# Altium schematic symbol library CM5IO.SchLib: 14 symbols
Pins are listed as number, name and electrical type; pins without a type are passive.

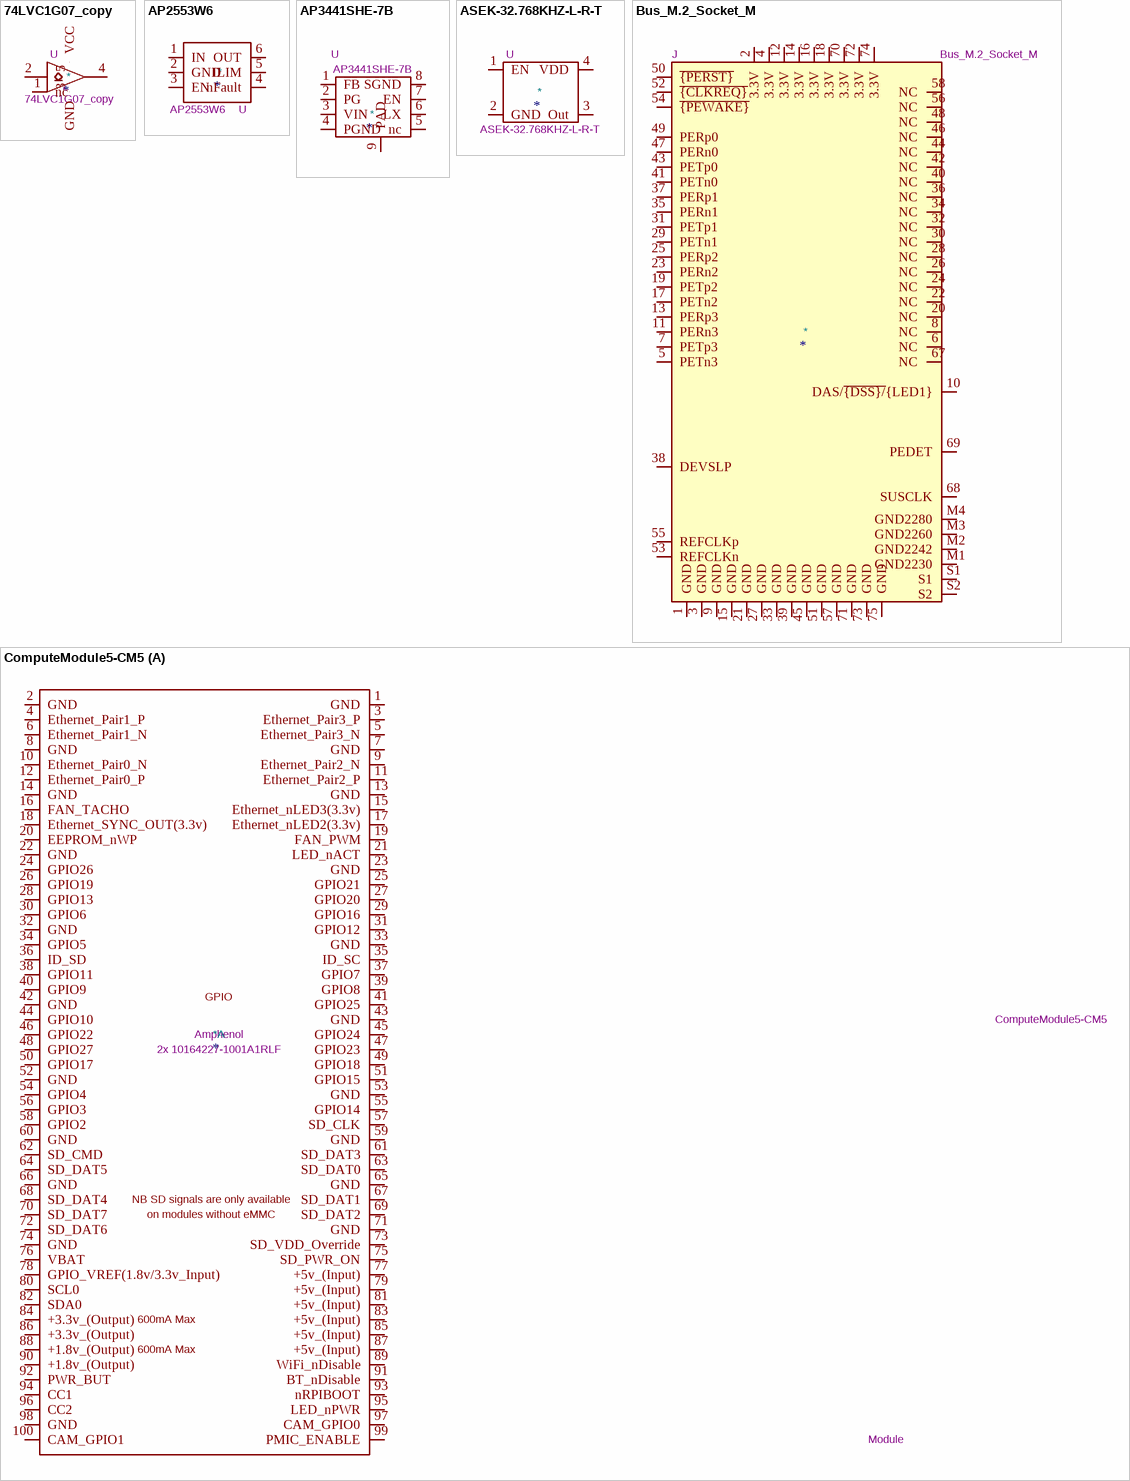
[diagram p0: symbols 74LVC1G07_copy to ComputeModule5-CM5]

## 74LVC1G07_copy
designator *  value 74LVC1G07_copy  Reference: U
Single Buffer Gate w/ Open Drain, Low-Voltage CMOS; ki_keywords: Single Gate Buff LVC CMOS Open Drain; ki_fp_filters: SOT* SG-*; Footprint: Package_TO_SOT_SMD:SOT-353_SC-70-5; Datasheet: http://www.ti.com/lit/sg/scyt129e/scyt129e.pdf; Description_: Single Buffer Gate w/ Open Drain, Low-Voltage CMOS
pins: 1 nc, 2, 3 GND, 4, 5 VCC

## AP2553W6
designator *  value AP2553W6  Reference: U
Field4: Digikey; Field5: AP2553W6-7DICT-ND; Footprint: Package_TO_SOT_SMD:SOT-23-6; Datasheet: https://www.diodes.com/assets/Datasheets/AP255x.pdf
pins: 1 IN, 2 GND, 3 EN, 4 nFault, 5 ILIM, 6 OUT

## AP3441SHE-7B
designator *  value AP3441SHE-7B  Reference: U
Footprint: Package_DFN_QFN:DFN-8-1EP_2x2mm_P0.5mm_EP1.05x1.75mm; Datasheet: https://www.diodes.com/assets/Datasheets/AP3441-L.pdf
pins: 1 FB, 2 PG, 3 VIN, 4 PGND, 5 nc, 6 LX, 7 EN, 8 SGND, 9 PAD

## ASEK-32.768KHZ-L-R-T
designator *  value ASEK-32.768KHZ-L-R-T  Reference: U
Footprint: Crystal:Crystal_SMD_3225-4Pin_3.2x2.5mm; Datasheet: https://abracon.com/Oscillators/ASEK.pdf
pins: 1 EN, 2 GND, 3 Out, 4 VDD

## Bus_M.2_Socket_M
designator *  value Bus_M.2_Socket_M  Reference: J
M.2 Socket 3 Mechanical Key M; ki_keywords: M2 NGNF PCI-E; ki_fp_filters: *M*2*M*; Description_: M.2 Socket 3 Mechanical Key M
pins: 1 GND, 2 3.3V, 3 GND, 4 3.3V, 5 PETn3, 6 NC, 7 PETp3, 8 NC, 9 GND, 10 DAS/~{{DSS}/}{LED1}, 11 PERn3, 12 3.3V, 13 PERp3, 14 3.3V, 15 GND, 16 3.3V, 17 PETn2, 18 3.3V, 19 PETp2, 20 NC, 21 GND, 22 NC, 23 PERn2, 24 NC, 25 PERp2, 26 NC, 27 GND, 28 NC, 29 PETn1, 30 NC, 31 PETp1, 32 NC, 33 GND, 34 NC, 35 PERn1, 36 NC, 37 PERp1, 38 DEVSLP, 39 GND, 40 NC, 41 PETn0, 42 NC, 43 PETp0, 44 NC, 45 GND, 46 NC, 47 PERn0, 48 NC, 49 PERp0, 50 ~{{PERST}}, 51 GND, 52 ~{{CLKREQ}}, 53 REFCLKn, 54 ~{{PEWAKE}}, 55 REFCLKp, 56 NC, 57 GND, 58 NC, 67 NC, 68 SUSCLK, 69 PEDET, 70 3.3V, 71 GND, 72 3.3V, 73 GND, 74 3.3V, 75 GND, M1 GND2230, M2 GND2242, M3 GND2260, M4 GND2280, S1, S2

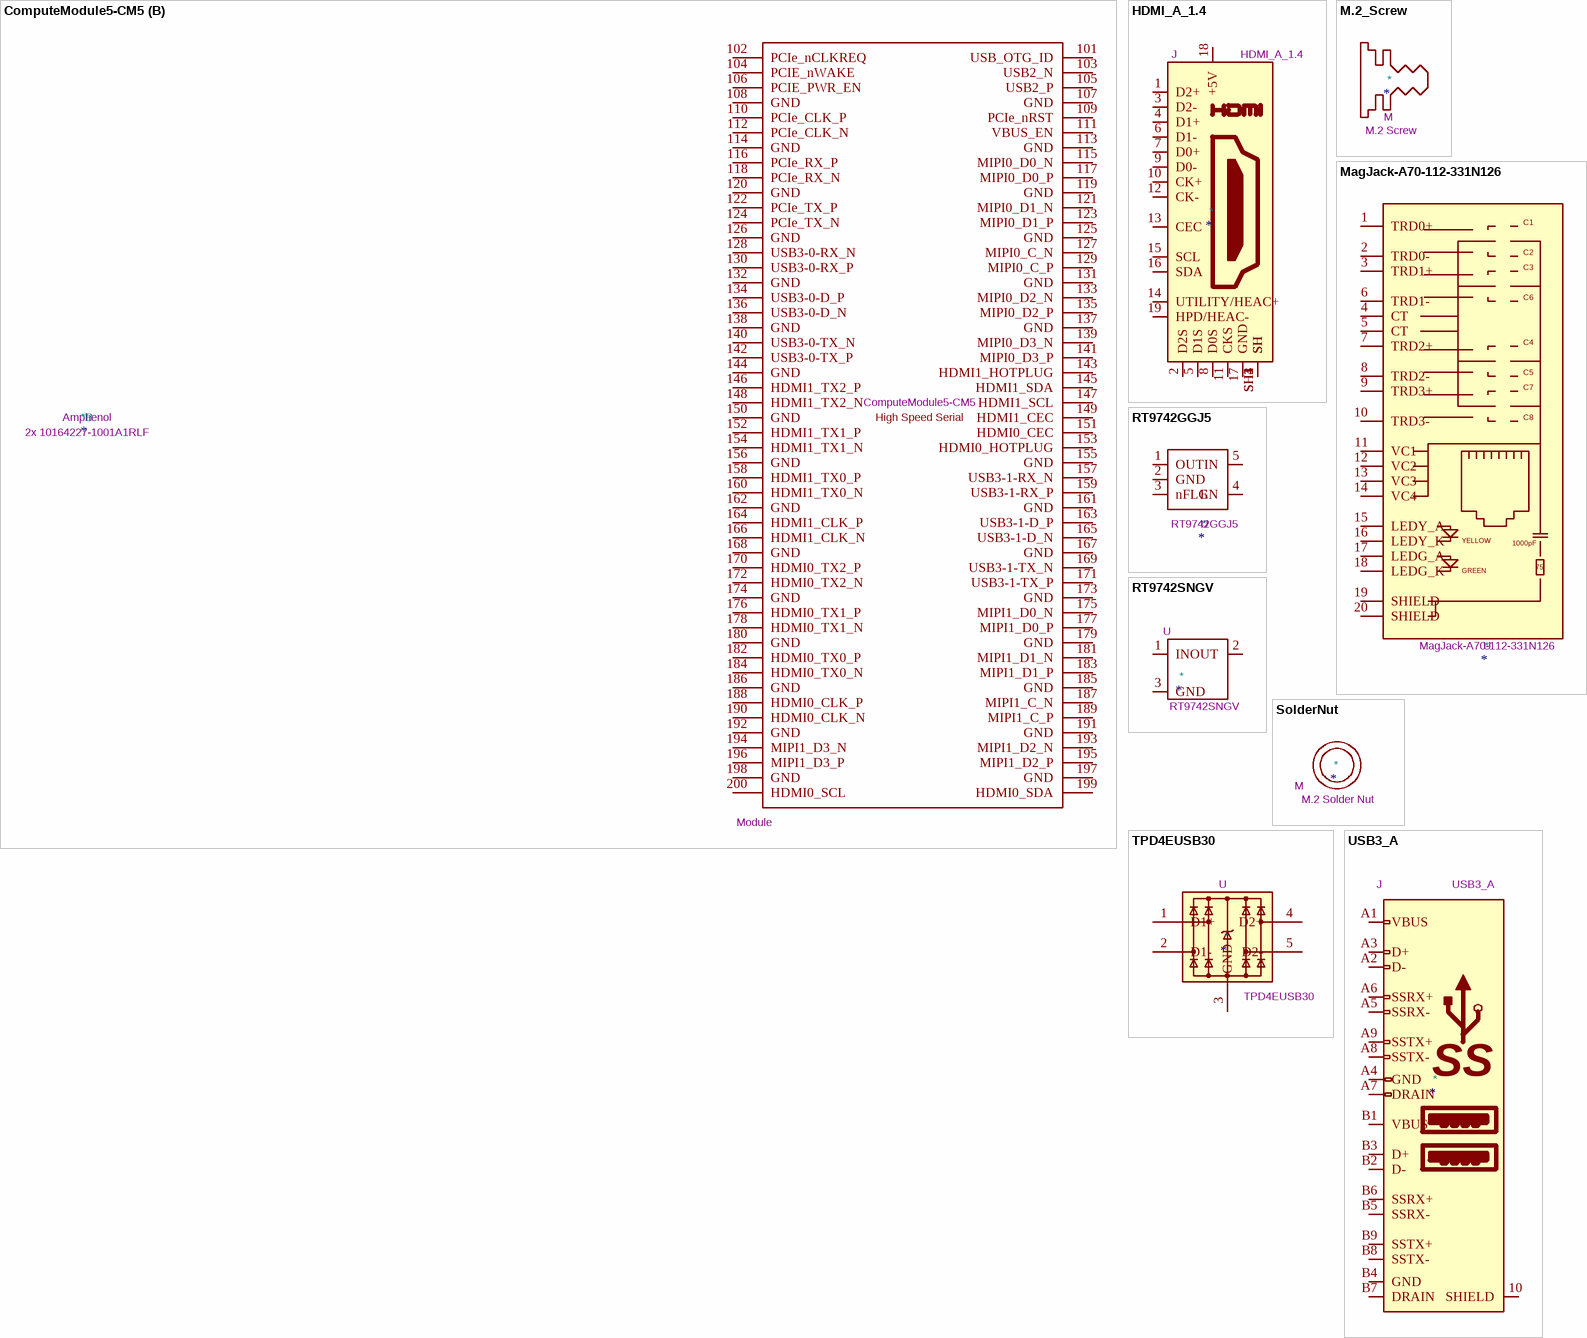
[diagram p1: symbols ComputeModule5-CM5 to USB3_A]

## ComputeModule5-CM5
designator *  value ComputeModule5-CM5  Reference: Module  Field4: Amphenol  Field5: 2x 10164227-1001A1RLF
RaspberryPi Compute module 5; Footprint: CM5IO:Raspberry-Pi-5-Compute-Module; Description_: RaspberryPi Compute module 5
part A pins: 1 GND, 2 GND, 3 Ethernet_Pair3_P, 4 Ethernet_Pair1_P, 5 Ethernet_Pair3_N, 6 Ethernet_Pair1_N, 7 GND, 8 GND, 9 Ethernet_Pair2_N, 10 Ethernet_Pair0_N, 11 Ethernet_Pair2_P, 12 Ethernet_Pair0_P, 13 GND, 14 GND, 15 Ethernet_nLED3(3.3v), 16 FAN_TACHO, 17 Ethernet_nLED2(3.3v), 18 Ethernet_SYNC_OUT(3.3v), 19 FAN_PWM, 20 EEPROM_nWP, 21 LED_nACT, 22 GND, 23 GND, 24 GPIO26, 25 GPIO21, 26 GPIO19, 27 GPIO20, 28 GPIO13, 29 GPIO16, 30 GPIO6, 31 GPIO12, 32 GND, 33 GND, 34 GPIO5, 35 ID_SC, 36 ID_SD, 37 GPIO7, 38 GPIO11, 39 GPIO8, 40 GPIO9, 41 GPIO25, 42 GND, 43 GND, 44 GPIO10, 45 GPIO24, 46 GPIO22, 47 GPIO23, 48 GPIO27, 49 GPIO18, 50 GPIO17, 51 GPIO15, 52 GND, 53 GND, 54 GPIO4, 55 GPIO14, 56 GPIO3, 57 SD_CLK, 58 GPIO2, 59 GND, 60 GND, 61 SD_DAT3, 62 SD_CMD, 63 SD_DAT0, 64 SD_DAT5, 65 GND, 66 GND, 67 SD_DAT1, 68 SD_DAT4, 69 SD_DAT2, 70 SD_DAT7, 71 GND, 72 SD_DAT6, 73 SD_VDD_Override, 74 GND, 75 SD_PWR_ON, 76 VBAT, 77 +5v_(Input), 78 GPIO_VREF(1.8v/3.3v_Input), 79 +5v_(Input), 80 SCL0, 81 +5v_(Input), 82 SDA0, 83 +5v_(Input), 84 +3.3v_(Output), 85 +5v_(Input), 86 +3.3v_(Output), 87 +5v_(Input), 88 +1.8v_(Output), 89 WiFi_nDisable, 90 +1.8v_(Output), 91 BT_nDisable, 92 PWR_BUT, 93 nRPIBOOT, 94 CC1, 95 LED_nPWR, 96 CC2, 97 CAM_GPIO0, 98 GND, 99 PMIC_ENABLE, 100 CAM_GPIO1
part B pins: 101 USB_OTG_ID, 102 PCIe_nCLKREQ, 103 USB2_N, 104 PCIE_nWAKE, 105 USB2_P, 106 PCIE_PWR_EN, 107 GND, 108 GND, 109 PCIe_nRST, 110 PCIe_CLK_P, 111 VBUS_EN, 112 PCIe_CLK_N, 113 GND, 114 GND, 115 MIPI0_D0_N, 116 PCIe_RX_P, 117 MIPI0_D0_P, 118 PCIe_RX_N, 119 GND, 120 GND, 121 MIPI0_D1_N, 122 PCIe_TX_P, 123 MIPI0_D1_P, 124 PCIe_TX_N, 125 GND, 126 GND, 127 MIPI0_C_N, 128 USB3-0-RX_N, 129 MIPI0_C_P, 130 USB3-0-RX_P, 131 GND, 132 GND, 133 MIPI0_D2_N, 134 USB3-0-D_P, 135 MIPI0_D2_P, 136 USB3-0-D_N, 137 GND, 138 GND, 139 MIPI0_D3_N, 140 USB3-0-TX_N, 141 MIPI0_D3_P, 142 USB3-0-TX_P, 143 HDMI1_HOTPLUG, 144 GND, 145 HDMI1_SDA, 146 HDMI1_TX2_P, 147 HDMI1_SCL, 148 HDMI1_TX2_N, 149 HDMI1_CEC, 150 GND, 151 HDMI0_CEC, 152 HDMI1_TX1_P, 153 HDMI0_HOTPLUG, 154 HDMI1_TX1_N, 155 GND, 156 GND, 157 USB3-1-RX_N, 158 HDMI1_TX0_P, 159 USB3-1-RX_P, 160 HDMI1_TX0_N, 161 GND, 162 GND, 163 USB3-1-D_P, 164 HDMI1_CLK_P, 165 USB3-1-D_N, 166 HDMI1_CLK_N, 167 GND, 168 GND, 169 USB3-1-TX_N, 170 HDMI0_TX2_P, 171 USB3-1-TX_P, 172 HDMI0_TX2_N, 173 GND, 174 GND, 175 MIPI1_D0_N, 176 HDMI0_TX1_P, 177 MIPI1_D0_P, 178 HDMI0_TX1_N, 179 GND, 180 GND, 181 MIPI1_D1_N, 182 HDMI0_TX0_P, 183 MIPI1_D1_P, 184 HDMI0_TX0_N, 185 GND, 186 GND, 187 MIPI1_C_N, 188 HDMI0_CLK_P, 189 MIPI1_C_P, 190 HDMI0_CLK_N, 191 GND, 192 GND, 193 MIPI1_D2_N, 194 MIPI1_D3_N, 195 MIPI1_D2_P, 196 MIPI1_D3_P, 197 GND, 198 GND, 199 HDMI0_SDA, 200 HDMI0_SCL
part A text: GPIO; NB SD signals are only available; on modules without eMMC; 600mA Max
part B text: High Speed Serial

## HDMI_A_1.4
designator *  value HDMI_A_1.4  Reference: J
HDMI 1.4+ type A connector; ki_keywords: hdmi conn; ki_fp_filters: HDMI*A*; Datasheet: https://en.wikipedia.org/wiki/HDMI; Description_: HDMI 1.4+ type A connector
pins: 1 D2+, 2 D2S, 3 D2-, 4 D1+, 5 D1S, 6 D1-, 7 D0+, 8 D0S, 9 D0-, 10 CK+, 11 CKS, 12 CK-, 13 CEC, 14 UTILITY/HEAC+, 15 SCL, 16 SDA, 17 GND, 18 +5V, 19 HPD/HEAC-, SH1 SH, SH2 SH, SH3 SH, SH4 SH

## M.2_Screw
designator *  value M.2 Screw  Reference: M

## MagJack-A70-112-331N126
designator *  value MagJack-A70-112-331N126  Reference: U
pins: 1 TRD0+, 2 TRD0-, 3 TRD1+, 4 CT, 5 CT, 6 TRD1-, 7 TRD2+, 8 TRD2-, 9 TRD3+, 10 TRD3-, 11 VC1, 12 VC2, 13 VC3, 14 VC4, 15 LEDY_A, 16 LEDY_K, 17 LEDG_A, 18 LEDG_K, 19 SHIELD, 20 SHIELD
text: C1; C2; C3; C6; C4; C5; C7; C8; YELLOW; 1000pF; GREEN; 75

## RT9742GGJ5
designator *  value RT9742GGJ5  Reference: U
1A load switch; Footprint: Package_TO_SOT_SMD:SOT-23-5; Datasheet: https://www.richtek.com/assets/product_file/RT9742/DS9742-00.pdf; Description_: 1A load switch
pins: 1 OUT, 2 GND, 3 nFLG, 4 EN, 5 IN

## RT9742SNGV
designator *  value RT9742SNGV  Reference: U
500mA Load Switch; Footprint: Package_TO_SOT_SMD:TSOT-23_HandSoldering; Datasheet: https://www.richtek.com/assets/product_file/RT9742/DS9742-10.pdf; Description_: 500mA Load Switch
pins: 1 IN, 2 OUT, 3 GND

## SolderNut
designator *  value M.2 Solder Nut  Reference: M

## TPD4EUSB30
designator *  value TPD4EUSB30  Reference: U
4-Channel ESD Protection for Super-Speed USB 3.0 Interface, USON-10; ki_keywords: ESD protection USB 3.0; ki_fp_filters: USON*2.5x1.0mm*P0.5mm*; Footprint: Package_SON:USON-10_2.5x1.0mm_P0.5mm; Datasheet: http://www.ti.com/lit/ds/symlink/tpd2eusb30a.pdf; Description_: 4-Channel ESD Protection for Super-Speed USB 3.0 Interface, USON-10
pins: 1 D1+, 2 D1-, 3 GND, 4 D2+, 5 D2-, 6 hidden, 7 hidden, 8 GND hidden, 9 hidden, 10 hidden

## USB3_A
designator *  value USB3_A  Reference: J
USB 3.0 A connector; ki_keywords: usb universal serial bus; Datasheet: ~; Description_: USB 3.0 A connector
pins: 10 SHIELD, A1 VBUS, A2 D-, A3 D+, A4 GND, A5 SSRX-, A6 SSRX+, A7 DRAIN, A8 SSTX-, A9 SSTX+, B1 VBUS, B2 D-, B3 D+, B4 GND, B5 SSRX-, B6 SSRX+, B7 DRAIN, B8 SSTX-, B9 SSTX+
text: SS